# EAGLE library part 61200821621 (library Wuerth_Elektronik_eiCan_05_Box_Header_IDC_Connectors_1_2)
WR-BHD 2.54mm Male Box Header, 8 Pins
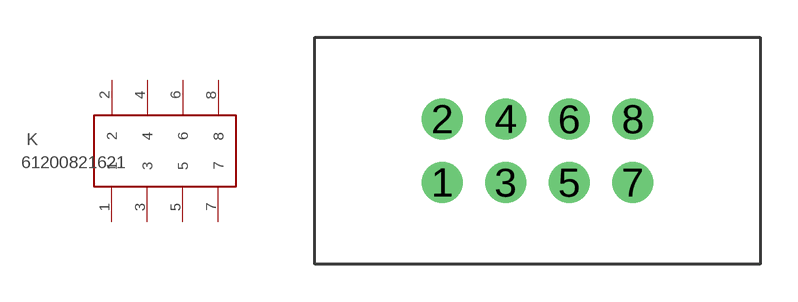
[diagram p77: symbol with the pads of 61200821621; footprint 61200821621]

Designator prefix K

## 61200821621  [61200821621]
1  1  pas
2  2  pas
3  3  pas
4  4  pas
5  5  pas
6  6  pas
7  7  pas
8  8  pas

## Footprint 61200821621 (pad centres in mm)
WR-BHD 2.54mm Male Box Header, 8 Pins
drill 1.1: 1 -2.54,-1.27; 2 -2.54,1.27; 3 0,-1.27; 4 0,1.27; 5 2.54,-1.27; 6 2.54,1.27; 7 5.08,-1.27; 8 5.08,1.27